# Altium footprint library CONN_FPC.PcbLib: 37 footprints (part 1 of 3)
Each footprint in its own frame and in the unit in brackets; x right, y up, seen from the top. Pads: shape width x height; smd on the part's side, far side on the other; paste and mask are expansions set on the pad; w line width, h text height; cw(c..) or ccw(c..) is an arc to the next point about the centre after c.
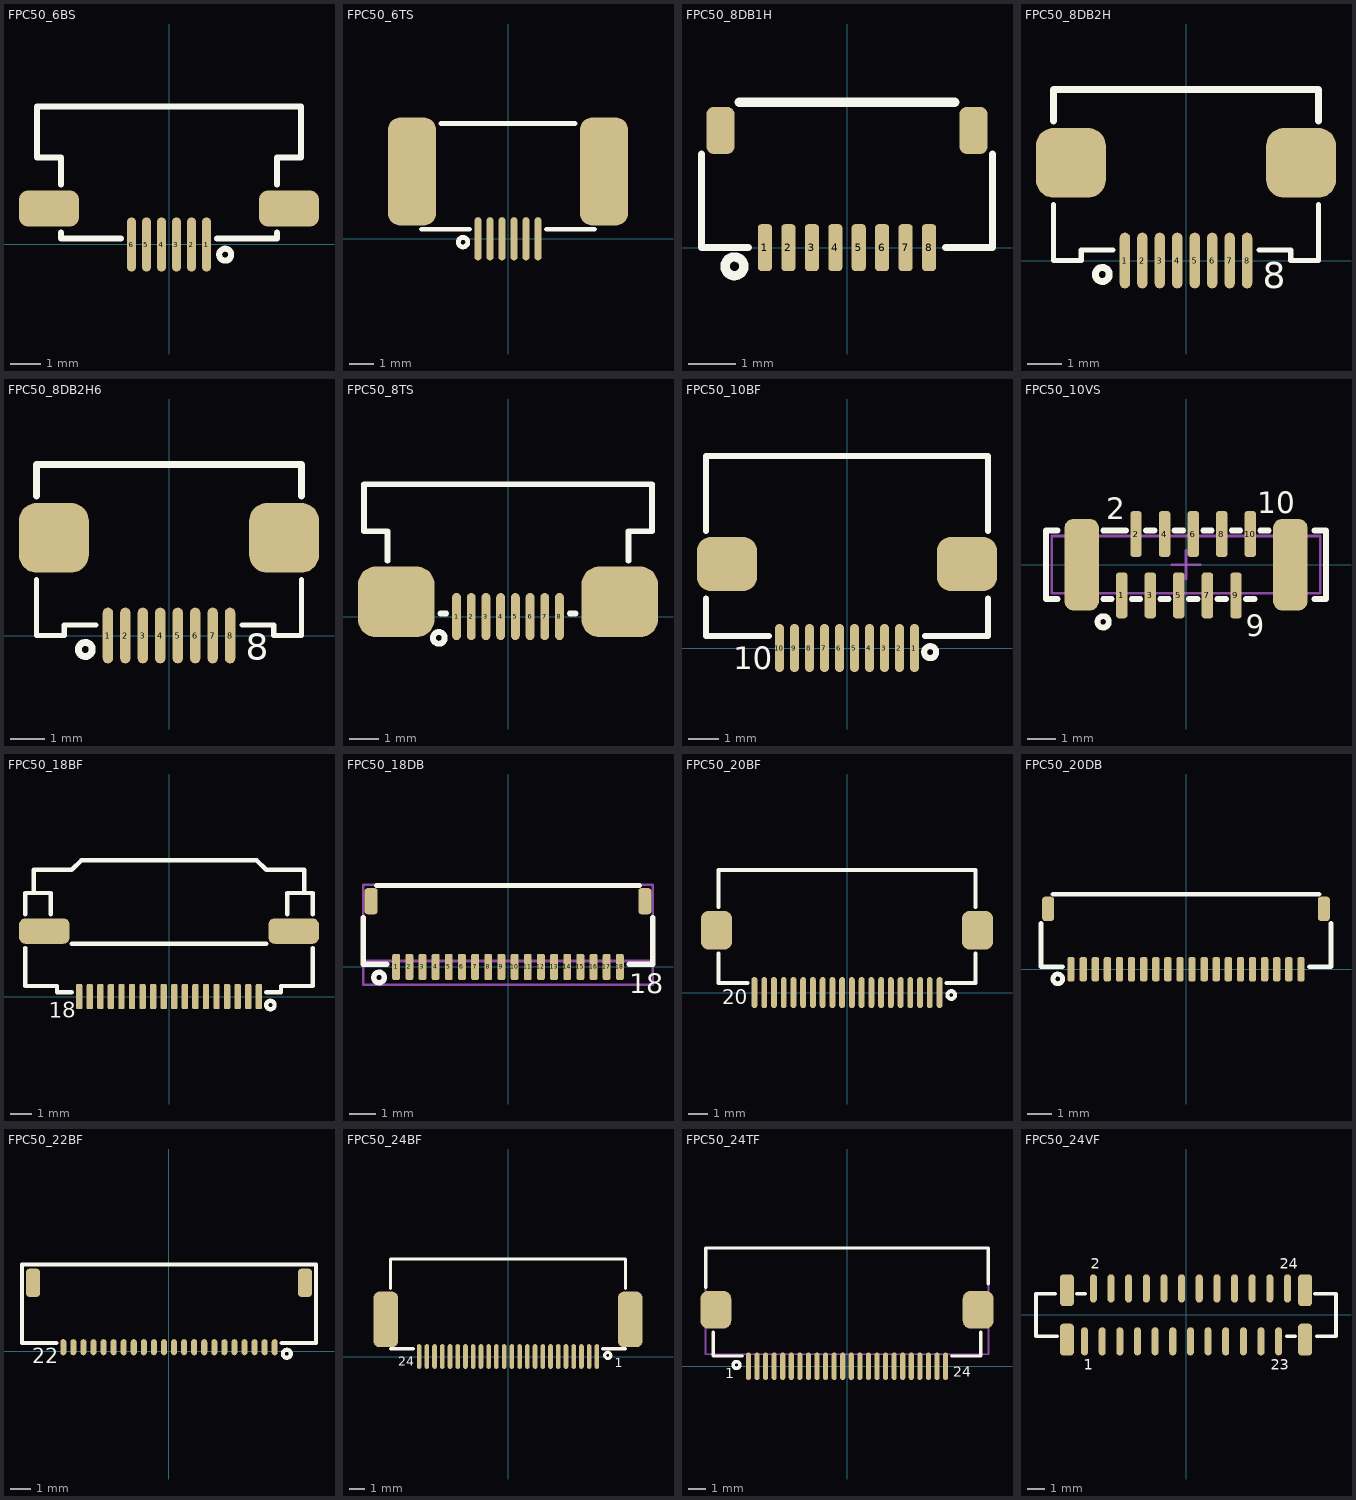
[diagram p0: the footprints below, top view; thin cyan lines are the x and y axes]

## FPC50_6BS [mm] "FFC-FPC 6pin pitch: 0.5mm, Bot. Contact,  Slide lock, FCI SFV6R1STBE1HLF"
height 3
pads (8):
  oval 0.3x1.8 smd mask+0.075: 1(1.25,0) 2(0.75,0) 3(0.25,0) 4(-0.25,0) 5(-0.75,0) 6(-1.25,0)
  rrect50% 2x1.2 smd: ""(-4,1.2) ""(4,1.2)
Top Overlay:
  circle w0.2: c1.874,-0.34 r0.2
  lines w0.2: -3.6,0.4 -3.6,0.2 -1.6,0.2 ; -3.6,2 -3.6,2.9 -4.4,2.9 -4.4,4.6 4.4,4.6 4.4,2.9 3.6,2.9 3.6,2 ; 1.6,0.2 3.6,0.2 3.6,0.4
3D body "sfv6r1stbe1hlf.stp": height 1.9, standoff 0.03, extent -4.25,-0.4 4.25,4.5

## FPC50_6TS [mm] "FFC-FPC 6pin pitch: 0.5mm, Top Contact,  Slide lock"
height 3
pads (8):
  oval 0.3x1.8 smd mask+0.075: 1(-1.25,0) 2(-0.75,0) 3(-0.25,0) 4(0.25,0) 5(0.75,0) 6(1.25,0)
  rrect50% 2x4.5 smd: ""(-4,2.8) ""(4,2.8)
Top Overlay:
  circle w0.2: c-1.874,-0.14 r0.2
  lines w0.2: -3.6,0.4 -1.6,0.4 ; -2.8,4.8 2.8,4.8 ; 1.6,0.4 3.6,0.4
3D body "fpc50_6_ts-.stp": height 2.1, standoff 0, extent -4.7,-0.4 4.7,4.7

## FPC50_8DB1H [mm] "FPC 8pin pitch: 0.5mm Dual Contact, Back flip lock, FFC2B27, 1mm Height"
height 1
pads (10):
  rrect50% 0.3x1 smd mask+0.05: 1(-1.75,0) 2(-1.25,0) 3(-0.75,0) 4(-0.25,0) 5(0.25,0) 6(0.75,0) 7(1.25,0) 8(1.75,0)
  rrect50% 0.6x1 smd mask+0.05: ""(-2.7,2.5) ""(2.7,2.5)
Top Overlay:
  circle w0.2: c-2.4,-0.4 r0.2
  lines w0.15: -3.1,2 -3.1,0 -2.1,0 ; 2.1,0 3.1,0 3.1,2
  lines w0.2: -2.3,3.1 2.3,3.1
3D body "FFC2B28-08-G.stp": height 1.77, standoff 0.02, extent -3,-0.25 3,3

## FPC50_8DB2H [mm] "FPC 8pin pitch: 0.5mm Dual Contact, Back flip lock, FFC2B27, 2mm Height"
height 2
pads (10):
  oval 0.3x1.6 smd mask+0.05: 1(-1.75,0) 2(-1.25,0) 3(-0.75,0) 4(-0.25,0) 5(0.25,0) 6(0.75,0) 7(1.25,0) 8(1.75,0)
  rrect50% 2x2 smd: ""(-3.3,2.8) ""(3.3,2.8)
Top Overlay:
  circle w0.2: c-2.4,-0.4 r0.2
  lines w0.15: -3.8,1.6 -3.8,0 -3,0 -3,0.3 -2.1,0.3 ; 2.1,0.3 3,0.3 3,0 3.8,0 3.8,1.6
  lines w0.2: -3.8,4 -3.8,4.9 3.8,4.9 3.8,4
  text "8" at 2.2,-0.8 h0.75
3D body "FFC2B27-08-G.stp": height 2.92, standoff 0, extent -3.75,-0.4 3.75,4.87

## FPC50_8DB2H6 [mm] "FPC 8pin pitch: 0.5mm Dual Contact, Back flip lock, FFC2B27, 2.6mm Height"
height 2.6
pads (10):
  oval 0.3x1.6 smd mask+0.05: 1(-1.75,0) 2(-1.25,0) 3(-0.75,0) 4(-0.25,0) 5(0.25,0) 6(0.75,0) 7(1.25,0) 8(1.75,0)
  rrect50% 2x2 smd: ""(-3.3,2.8) ""(3.3,2.8)
Top Overlay:
  circle w0.2: c-2.4,-0.4 r0.2
  lines w0.15: -3.8,1.6 -3.8,0 -3,0 -3,0.3 -2.1,0.3 ; 2.1,0.3 3,0.3 3,0 3.8,0 3.8,1.6
  lines w0.2: -3.8,4 -3.8,4.9 3.8,4.9 3.8,4
  text "8" at 2.2,-0.7 h0.75
3D body "FFC2B29-08-G.stp": height 3.71, standoff 0, extent -4.025,-0.4 4.025,4.87

## FPC50_8TS [mm] "FPC 8pin pitch: 0.5mm Top Contact, Slide lock, FCI SFV8R-2STE1HLF,"
pads (10):
  oval 0.3x1.6 smd mask+0.05: 1(-1.75,0) 2(-1.25,0) 3(-0.75,0) 4(-0.25,0) 5(0.25,0) 6(0.75,0) 7(1.25,0) 8(1.75,0)
  rrect50% 2.6x2.4 smd: ""(-3.8,0.5) ""(3.8,0.5)
Top Overlay:
  circle w0.2: c-2.35,-0.725 r0.2
  lines w0.2: -4.1,1.9 -4.1,2.9 -4.9,2.9 -4.9,4.5 4.9,4.5 4.9,2.9 4.1,2.9 4.1,1.9 ; -2.3,0.1 -2.1,0.1 ; 2.1,0.1 2.3,0.1
3D body "ssfv8r_2stlf.stp": height 1.82, standoff -0.05, extent -4.75,-0.5 4.75,4.4

## FPC50_10BF [mm] "FPC, 0.50mm, SMT,RA Bot. Contact, front flip lock, WE 687110149022"
height 7.62
pads (12):
  oval 0.3x1.6 smd mask+0.05: 1(2.25,0) 2(1.75,0) 3(1.25,0) 4(0.75,0) 5(0.25,0) 6(-0.25,0) 7(-0.75,0) 8(-1.25,0) 9(-1.75,0) 10(-2.25,0)
  rrect50% 2x1.8 smd: ""(-4,2.8) ""(4,2.8)
Top Overlay:
  circle w0.2: c2.774,-0.14 r0.2
  lines w0.2: -4.7,1.65 -4.7,0.4 -2.6,0.4 ; -4.7,3.9 -4.7,6.4 4.7,6.4 4.7,3.9 ; 2.6,0.4 4.7,0.4 4.7,1.65
  text "10" at -3.8,-0.7 h0.75
3D body "687110149022.stp": height 2.25, standoff 0, extent -4.55,-0.225 4.55,6.275

## FPC50_10VS [mm] "FPC, 10 Position; 0.5mm,Vertical, FFC2A32-10-T Slide-lock"
pads (12):
  rrect50% 0.4x1.6 smd mask+0.1: 1(-2.25,-1.075) 2(-1.75,1.075) 3(-1.25,-1.075) 4(-0.75,1.075) 5(-0.25,-1.075) 6(0.25,1.075) 7(0.75,-1.075) 8(1.25,1.075) 9(1.75,-1.075) 10(2.25,1.075)
  rrect50% 1.2x3.2 smd: ""(-3.65,0) ""(3.65,0)
Top Overlay:
  circle w0.2: c-2.9,-2 r0.2
  lines w0.2: -4.5,-1.2 -4.9,-1.2 -4.9,1.2 -4.5,1.2 ; -2.9,-1.2 -2.6,-1.2 ; -2.9,1.2 -2.1,1.2 ; -1.9,-1.2 -1.6,-1.2 ; -1.4,1.2 -1.1,1.2 ; -0.9,-1.2 -0.6,-1.2 ; -0.4,1.2 -0.1,1.2 ; 0.1,-1.2 0.4,-1.2 ; 0.6,1.2 0.9,1.2 ; 1.1,-1.2 1.4,-1.2 ; 1.6,1.2 1.9,1.2 ; 2.1,-1.2 2.4,-1.2 ; 2.6,1.2 2.9,1.2 ; 4.5,-1.2 4.9,-1.2 4.9,1.2 4.5,1.2
  text "2" at -2.8,1.6 h0.75
  text "9" at 2.1,-2.5 h0.75
  text "10" at 2.5,1.8 h0.75
Mechanical 13:
  lines w0.1: -0.5,0 0.5,0 ; 0,-0.5 0,0.5 ; -4.7,-1 4.7,-1 4.7,1 -4.7,1 -4.7,-1
3D body "FFC2A32-10-T.stp": height 4.2, standoff -0.05, extent -6.05,-1.825 6.05,1.675

## FPC50_18BF [mm] "FPC 0.5mm pitch, Bot. Contact, front flip lock, GCT_FFC2B35-18-T"
pads (20):
  rrect50% 0.3x1.2 smd mask+0.05: 1(4.25,0) 2(3.75,0) 3(3.25,0) 4(2.75,0) 5(2.25,0) 6(1.75,0) 7(1.25,0) 8(0.75,0) 9(0.25,0) 10(-0.25,0) 11(-0.75,0) 12(-1.25,0) 13(-1.75,0) 14(-2.25,0) 15(-2.75,0) 16(-3.25,0) 17(-3.75,0) 18(-4.25,0)
  rrect50% 2.4x1.2 smd mask+0.05: ""(-5.9,3.1) ""(5.9,3.1)
Top Overlay:
  circle w0.2: c4.8,-0.4 r0.2
  lines w0.2: -6.8,2.3 -6.8,0.5 -5.3,0.5 -5.3,0.2 -4.6,0.2 ; -6.8,3.9 -6.8,4.9 -6.4,4.9 ; -5.6,3.9 -5.6,4.9 -6.4,4.9 ; -4.6,2.5 4.6,2.5 ; 4.6,0.2 5.3,0.2 5.3,0.5 6.8,0.5 6.8,2.3 ; 5.6,3.9 5.6,4.9 6.4,4.9 ; 6.8,3.9 6.8,4.9 6.4,4.9 ; -6.4,4.9 -6.4,6 -4.6,6 -4.15,6.45 4.15,6.45 4.6,6 6.4,6 6.4,4.9
  text "18" at -5.7,-1 h0.75
3D body "FFC2B35-18-T.stp": height 1.99, standoff -0.01, extent -6.7,-0.365 6.7,6.395

## FPC50_18DB [mm] "FPC 0.5mm pitch, Dual Contact, back flip lock, GCT_FFC2B28-18-G"
pads (20):
  rrect50% 0.3x1 smd mask+0.05: 1(-4.25,0) 2(-3.75,0) 3(-3.25,0) 4(-2.75,0) 5(-2.25,0) 6(-1.75,0) 7(-1.25,0) 8(-0.75,0) 9(-0.25,0) 10(0.25,0) 11(0.75,0) 12(1.25,0) 13(1.75,0) 14(2.25,0) 15(2.75,0) 16(3.25,0) 17(3.75,0) 18(4.25,0)
  rrect50% 0.5x1 smd mask+0.05: ""(-5.2,2.5) ""(5.2,2.5)
Top Overlay:
  circle w0.2: c-4.9,-0.4 r0.2
  lines w0.2: -5.5,1.875 -5.5,0.1 -4.6,0.1 ; -5,3.1 5,3.1 ; 4.6,0.1 5.5,0.1 5.5,1.875
  text "18" at 4.6,-1 h0.75
Mechanical 13:
  lines w0.1: -5.5,0.225 -5.5,-0.675 5.5,-0.675 5.5,0.225 ; -5.5,0.225 -5.5,3.125 5.5,3.125 5.5,0.225 ; -5.5,0.225 5.5,0.225
3D body "FFC2B28-18-G.stp": height 1.72, standoff -0.03, extent -5.5,-0.225 5.5,3.025

## FPC50_20BF [mm] "FH12-20S-0.5SH FFC-FPC pitch: 0.5mm, Bottom Contact, front flip lock"
height 3
pads (22):
  oval 0.3x1.6 smd mask+0.05: 1(4.75,0) 2(4.25,0) 3(3.75,0) 4(3.25,0) 5(2.75,0) 6(2.25,0) 7(1.75,0) 8(1.25,0) 9(0.75,0) 10(0.25,0) 11(-0.25,0) 12(-0.75,0) 13(-1.25,0) 14(-1.75,0) 15(-2.25,0) 16(-2.75,0) 17(-3.25,0) 18(-3.75,0) 19(-4.25,0) 20(-4.75,0)
  rrect50% 1.6x2 smd: ""(-6.7,3.2) ""(6.7,3.2)
Top Overlay:
  circle w0.2: c5.35,-0.125 r0.2
  lines w0.2: -6.6,2 -6.6,0.5 -5.1,0.5 ; -6.6,4.4 -6.6,6.3 6.6,6.3 6.6,4.4 ; 5.1,0.5 6.6,0.5 6.6,2
  text "20" at -6.4,-0.6 h0.75
3D body "FH12-20S-0.5SH.stp": height 2.14, standoff 0.04, extent -7.05,-0.2 7.05,6.2

## FPC50_20DB [mm] "FPC 0.5mm pitch, Dual Contact, back flip lock, GCT_FFC2B28-20-G"
pads (22):
  rrect50% 0.3x1 smd mask+0.05: 1(-4.75,0) 2(-4.25,0) 3(-3.75,0) 4(-3.25,0) 5(-2.75,0) 6(-2.25,0) 7(-1.75,0) 8(-1.25,0) 9(-0.75,0) 10(-0.25,0) 11(0.25,0) 12(0.75,0) 13(1.25,0) 14(1.75,0) 15(2.25,0) 16(2.75,0) 17(3.25,0) 18(3.75,0) 19(4.25,0) 20(4.75,0)
  rrect50% 0.5x1 smd mask+0.05: ""(-5.7,2.5) ""(5.7,2.5)
Top Overlay:
  circle w0.2: c-5.3,-0.4 r0.2
  lines w0.2: -6,1.9 -6,0.1 -5.1,0.1 ; -5.5,3.1 5.5,3.1 ; 5.1,0.1 6,0.1 6,1.9
3D body "FFC2B28-20-G.step": height 1.1, standoff 0, extent -6,-0.8 6,3

## FPC50_22BF [mm] "Connector; 0.5mm, Bottom Contact, front flip lock"
height 2
pads (24):
  oval 0.3x0.8 smd mask+0.05: 1(5.25,0.2) 2(4.75,0.2) 3(4.25,0.2) 4(3.75,0.2) 5(3.25,0.2) 6(2.75,0.2) 7(2.25,0.2) 8(1.75,0.2) 9(1.25,0.2) 10(0.75,0.2) 11(0.25,0.2) 12(-0.25,0.2) 13(-0.75,0.2) 14(-1.25,0.2) 15(-1.75,0.2) 16(-2.25,0.2) 17(-2.75,0.2) 18(-3.25,0.2) 19(-3.75,0.2) 20(-4.25,0.2) 21(-4.75,0.2) 22(-5.25,0.2)
  rrect50% 0.7x1.4 smd: ""(-6.75,3.4) ""(6.75,3.4)
Top Overlay:
  circle w0.2: c5.85,-0.125 r0.2
  lines w0.2: -5.6,0.4 -7.3,0.4 -7.3,4.3 7.3,4.3 7.3,0.4 5.6,0.4
  text "22" at -6.8,-0.6 h0.75
3D body "FH55-22S-0.5SH.stp": height 1.46, standoff -0.04, extent -7.2,0 7.2,4.25

## FPC50_24BF [mm] "FPC, FH12 Series; 24 Position; 0.5mm, Bottom Contact, front flip lock, FH12F-24S-0.5SH"
pads (26):
  oval 0.3x1.6 smd mask+0.05: 1(5.75,0) 2(5.25,0) 3(4.75,0) 4(4.25,0) 5(3.75,0) 6(3.25,0) 7(2.75,0) 8(2.25,0) 9(1.75,0) 10(1.25,0) 11(0.75,0) 12(0.25,0) 13(-0.25,0) 14(-0.75,0) 15(-1.25,0) 16(-1.75,0) 17(-2.25,0) 18(-2.75,0) 19(-3.25,0) 20(-3.75,0) 21(-4.25,0) 22(-4.75,0) 23(-5.25,0) 24(-5.75,0)
  rrect50% 1.6x3.6 smd: ""(-7.9,2.4) ""(7.9,2.4)
Top Overlay:
  circle w0.2: c6.45,0.075 r0.2
  lines w0.2: -7.6,0.5 -6.1,0.5 ; -7.6,4.4 -7.6,6.3 7.6,6.3 7.6,4.4 ; 6.1,0.5 7.6,0.5
  text "1" at 6.9,-0.7 h0.6
  text "24" at -7.1,-0.6 h0.6
3D body "FH12F-24S-0.5SH.stp": height 2.04, standoff -0.06, extent -8.05,-0.2 8.05,6.2

## FPC50_24TF [mm] "FPC 0.5mm, Top Contact, front flip lock, FH12A-24S-0.5SH(55)"
height 2
pads (26):
  oval 0.3x1.6 smd mask+0.05: 1(-5.75,0) 2(-5.25,0) 3(-4.75,0) 4(-4.25,0) 5(-3.75,0) 6(-3.25,0) 7(-2.75,0) 8(-2.25,0) 9(-1.75,0) 10(-1.25,0) 11(-0.75,0) 12(-0.25,0) 13(0.25,0) 14(0.75,0) 15(1.25,0) 16(1.75,0) 17(2.25,0) 18(2.75,0) 19(3.25,0) 20(3.75,0) 21(4.25,0) 22(4.75,0) 23(5.25,0) 24(5.75,0)
  rrect50% 1.8x2.2 smd: ""(-7.65,3.3) ""(7.65,3.3)
Top Overlay:
  circle w0.2: c-6.45,0.075 r0.2
  lines w0.2: -8.25,4.6 -8.25,6.9 8.25,6.9 8.25,4.825 ; -7.8,2 -7.8,0.6 -6.1,0.6 ; 6.1,0.6 7.8,0.6 7.8,2
  text "24" at 6.2,-0.6 h0.6
  text "1" at -7.1,-0.7 h0.6
Mechanical 13:
  lines w0.1: -8.25,0.7 -8.25,6.9 8.25,6.9 8.25,0.7 -8.25,0.7
3D body "FH12A-24S-0.5SH.stp": height 2.05, standoff -0.1, extent -8.25,-0.2 8.25,6.8

## FPC50_24VF [mm] "Connector; FH12 Series; 24 Position; 0.5mm, Vertical, FH12-24S-0.5SV, flip-lock"
height 4.85
pads (28):
  oval 0.4x1.6 smd: 1(-5.75,-1.5) 2(-5.25,1.5) 3(-4.75,-1.5) 4(-4.25,1.5) 5(-3.75,-1.5) 6(-3.25,1.5) 7(-2.75,-1.5) 8(-2.25,1.5) 9(-1.75,-1.5) 10(-1.25,1.5) 11(-0.75,-1.5) 12(-0.25,1.5) 13(0.25,-1.5) 14(0.75,1.5) 15(1.25,-1.5) 16(1.75,1.5) 17(2.25,-1.5) 18(2.75,1.5) 19(3.25,-1.5) 20(3.75,1.5) 21(4.25,-1.5) 22(4.75,1.5) 23(5.25,-1.5) 24(5.75,1.5)
  rrect50% 0.8x1.8 smd: ""(-6.75,-1.4) ""(-6.75,1.4) ""(6.75,-1.4) ""(6.75,1.4)
Top Overlay:
  lines w0.2: -7.4,1.2 -8.5,1.2 -8.5,-1.2 -7.3,-1.2 ; -6.2,1.2 -5.7,1.2 ; 5.7,-1.2 6.2,-1.2 ; 7.3,1.2 8.5,1.2 8.5,-1.2 7.4,-1.2
  text "1" at -5.8,-3.1 h0.6
  text "2" at -5.4,2.6 h0.6
  text "24" at 5.3,2.6 h0.6
  text "23" at 4.8,-3.1 h0.6
3D body "FH12-24S-0.5SV.stp": height 5.48, standoff -0.03, extent -7.7,-1.8 7.7,2